# Altium footprint library AM1D-NZ.PcbLib: 1 footprints
Each footprint in its own frame and in the unit in brackets; x right, y up, seen from the top. Pads: shape width x height; smd on the part's side, far side on the other; paste and mask are expansions set on the pad; w line width, h text height; cw(c..) or ccw(c..) is an arc to the next point about the centre after c.
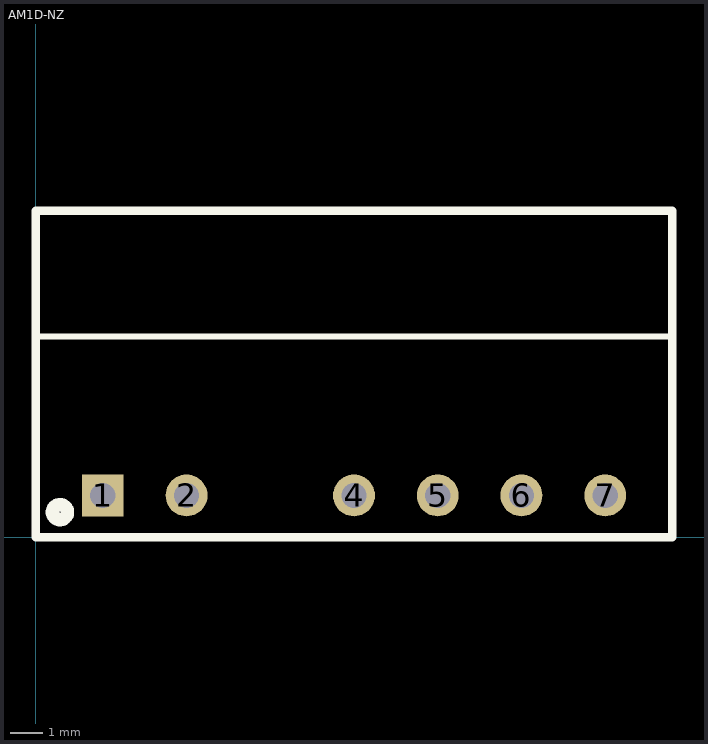
[diagram p0: the footprint, top view; thin cyan lines are the x and y axes]

## AM1D-NZ [mil]
pads (6):
  rect 50x50 hole 30: 1(80,50)
  round 50 hole 30: 2(180,50) 4(380,50) 5(480,50) 6(580,50) 7(680,50)
Top Overlay:
  circle w16: c28.82,30 r9
  lines w7: 0,240 760,240
  lines w10: 0,0 0,390 760,390 760,0 0,0
3D body: height 490, standoff 0, extent 0,0 760,390